# EAGLE library part M24LR64-RMN6/2 (library ST Microelctronics_By_element14_Batch_1)
64 Kbit EEPROM
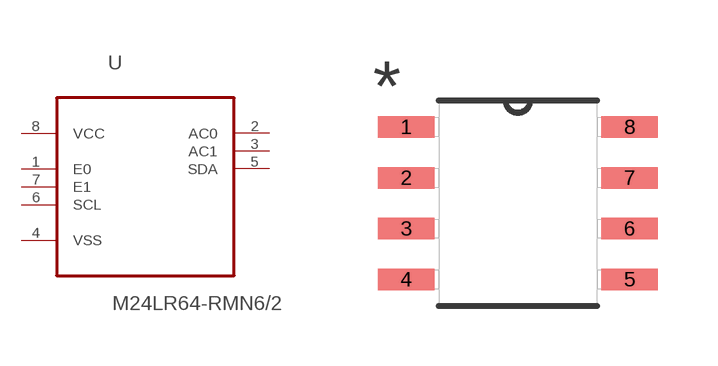
[diagram p158: symbol with the pads of SOIC127P600X175-8N; footprint SOIC127P600X175-8N]

Designator prefix U

## M24LR64-RMN6/2 (MPN: M24LR64-RMN6/2; OC_FARNELL: 1794173; OC_NEWARK: -; PACKAGE: SOIC-8; SUPPLIER: STMICROELECTRONICS)  [SOIC127P600X175-8N]
1  E0  in
2  AC0  out
3  AC1  out
4  VSS  pwr
5  SDA  out
6  SCL  in
7  E1  in
8  VCC  pwr

## Footprint SOIC127P600X175-8N (pad centres in mm)
smd 1.422 x 0.533: 1 -2.794,1.905; 2 -2.794,0.635; 3 -2.794,-0.635; 4 -2.794,-1.905; 5 2.794,-1.905; 6 2.794,-0.635; 7 2.794,0.635; 8 2.794,1.905